# EAGLE library part CONN_SAS_MINI_X_4 (library GPLIB_CONN)
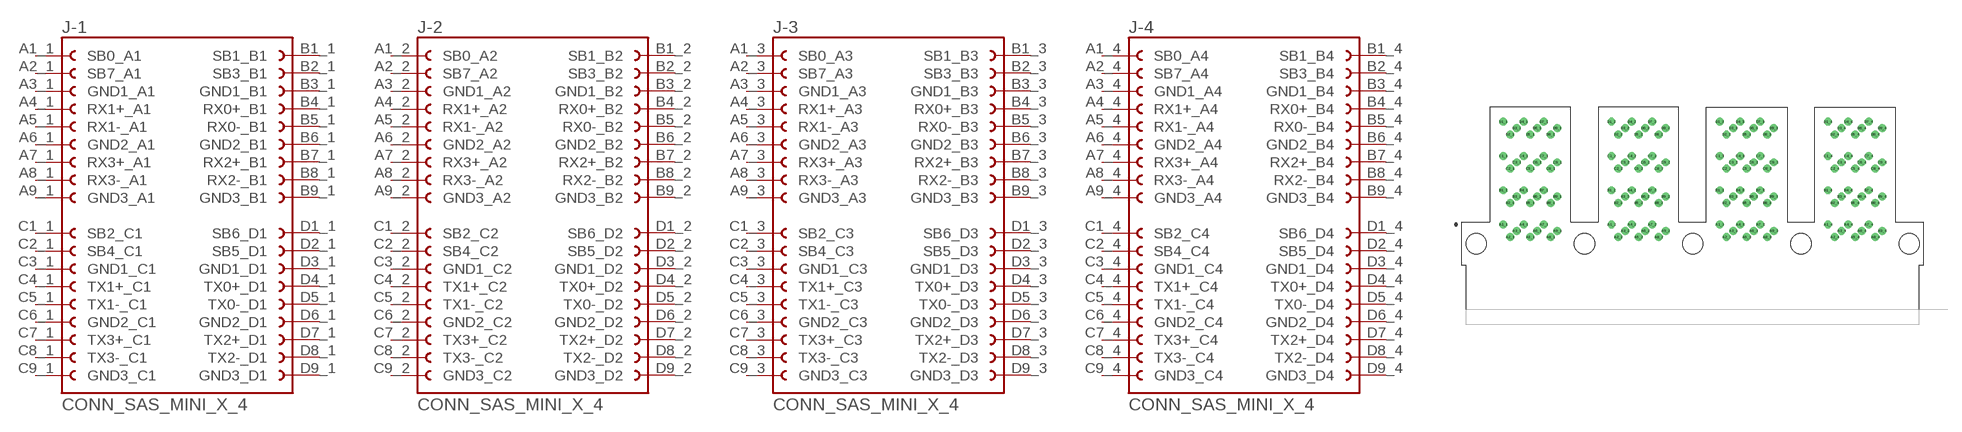
[diagram p59: symbol with the pads of CONN_144P_MINI_SAS_G40H13331HR; footprint CONN_144P_MINI_SAS_G40H13331HR]

Designator prefix J; gates -1=CONN_SAS_MINI_36PX4_144P_1 -2=CONN_SAS_MINI_36PX4_144P_2 -3=CONN_SAS_MINI_36PX4_144P_3 -4=CONN_SAS_MINI_36PX4_144P_4

## CONN_SAS_MINI_X_4_G40H13331HR  [CONN_144P_MINI_SAS_G40H13331HR]
A1_1  -1:SB0_A1  pas
A1_2  -2:SB0_A2  pas
A1_3  -3:SB0_A3  pas
A1_4  -4:SB0_A4  pas
A2_1  -1:SB7_A1  pas
A2_2  -2:SB7_A2  pas
A2_3  -3:SB7_A3  pas
A2_4  -4:SB7_A4  pas
A3_1  -1:GND1_A1  pas
A3_2  -2:GND1_A2  pas
A3_3  -3:GND1_A3  pas
A3_4  -4:GND1_A4  pas
A4_1  -1:RX1+_A1  pas
A4_2  -2:RX1+_A2  pas
A4_3  -3:RX1+_A3  pas
A4_4  -4:RX1+_A4  pas
A5_1  -1:RX1-_A1  pas
A5_2  -2:RX1-_A2  pas
A5_3  -3:RX1-_A3  pas
A5_4  -4:RX1-_A4  pas
A6_1  -1:GND2_A1  pas
A6_2  -2:GND2_A2  pas
A6_3  -3:GND2_A3  pas
A6_4  -4:GND2_A4  pas
A7_1  -1:RX3+_A1  pas
A7_2  -2:RX3+_A2  pas
A7_3  -3:RX3+_A3  pas
A7_4  -4:RX3+_A4  pas
A8_1  -1:RX3-_A1  pas
A8_2  -2:RX3-_A2  pas
A8_3  -3:RX3-_A3  pas
A8_4  -4:RX3-_A4  pas
A9_1  -1:GND3_A1  pas
A9_2  -2:GND3_A2  pas
A9_3  -3:GND3_A3  pas
A9_4  -4:GND3_A4  pas
B1_1  -1:SB1_B1  pas
B1_2  -2:SB1_B2  pas
B1_3  -3:SB1_B3  pas
B1_4  -4:SB1_B4  pas
B2_1  -1:SB3_B1  pas
B2_2  -2:SB3_B2  pas
B2_3  -3:SB3_B3  pas
B2_4  -4:SB3_B4  pas
B3_1  -1:GND1_B1  pas
B3_2  -2:GND1_B2  pas
B3_3  -3:GND1_B3  pas
B3_4  -4:GND1_B4  pas
B4_1  -1:RX0+_B1  pas
B4_2  -2:RX0+_B2  pas
B4_3  -3:RX0+_B3  pas
B4_4  -4:RX0+_B4  pas
B5_1  -1:RX0-_B1  pas
B5_2  -2:RX0-_B2  pas
B5_3  -3:RX0-_B3  pas
B5_4  -4:RX0-_B4  pas
B6_1  -1:GND2_B1  pas
B6_2  -2:GND2_B2  pas
B6_3  -3:GND2_B3  pas
B6_4  -4:GND2_B4  pas
B7_1  -1:RX2+_B1  pas
B7_2  -2:RX2+_B2  pas
B7_3  -3:RX2+_B3  pas
B7_4  -4:RX2+_B4  pas
B8_1  -1:RX2-_B1  pas
B8_2  -2:RX2-_B2  pas
B8_3  -3:RX2-_B3  pas
B8_4  -4:RX2-_B4  pas
B9_1  -1:GND3_B1  pas
B9_2  -2:GND3_B2  pas
B9_3  -3:GND3_B3  pas
B9_4  -4:GND3_B4  pas
C1_1  -1:SB2_C1  pas
C1_2  -2:SB2_C2  pas
C1_3  -3:SB2_C3  pas
C1_4  -4:SB2_C4  pas
C2_1  -1:SB4_C1  pas
C2_2  -2:SB4_C2  pas
C2_3  -3:SB4_C3  pas
C2_4  -4:SB4_C4  pas
C3_1  -1:GND1_C1  pas
C3_2  -2:GND1_C2  pas
C3_3  -3:GND1_C3  pas
C3_4  -4:GND1_C4  pas
C4_1  -1:TX1+_C1  pas
C4_2  -2:TX1+_C2  pas
C4_3  -3:TX1+_C3  pas
C4_4  -4:TX1+_C4  pas
C5_1  -1:TX1-_C1  pas
C5_2  -2:TX1-_C2  pas
C5_3  -3:TX1-_C3  pas
C5_4  -4:TX1-_C4  pas
C6_1  -1:GND2_C1  pas
C6_2  -2:GND2_C2  pas
C6_3  -3:GND2_C3  pas
C6_4  -4:GND2_C4  pas
C7_1  -1:TX3+_C1  pas
C7_2  -2:TX3+_C2  pas
C7_3  -3:TX3+_C3  pas
C7_4  -4:TX3+_C4  pas
C8_1  -1:TX3-_C1  pas
C8_2  -2:TX3-_C2  pas
C8_3  -3:TX3-_C3  pas
C8_4  -4:TX3-_C4  pas
C9_1  -1:GND3_C1  pas
C9_2  -2:GND3_C2  pas
C9_3  -3:GND3_C3  pas
C9_4  -4:GND3_C4  pas
D1_1  -1:SB6_D1  pas
D1_2  -2:SB6_D2  pas
D1_3  -3:SB6_D3  pas
D1_4  -4:SB6_D4  pas
D2_1  -1:SB5_D1  pas
D2_2  -2:SB5_D2  pas
D2_3  -3:SB5_D3  pas
D2_4  -4:SB5_D4  pas
D3_1  -1:GND1_D1  pas
D3_2  -2:GND1_D2  pas
D3_3  -3:GND1_D3  pas
D3_4  -4:GND1_D4  pas
D4_1  -1:TX0+_D1  pas
D4_2  -2:TX0+_D2  pas
D4_3  -3:TX0+_D3  pas
D4_4  -4:TX0+_D4  pas
D5_1  -1:TX0-_D1  pas
D5_2  -2:TX0-_D2  pas
D5_3  -3:TX0-_D3  pas
D5_4  -4:TX0-_D4  pas
D6_1  -1:GND2_D1  pas
D6_2  -2:GND2_D2  pas
D6_3  -3:GND2_D3  pas
D6_4  -4:GND2_D4  pas
D7_1  -1:TX2+_D1  pas
D7_2  -2:TX2+_D2  pas
D7_3  -3:TX2+_D3  pas
D7_4  -4:TX2+_D4  pas
D8_1  -1:TX2-_D1  pas
D8_2  -2:TX2-_D2  pas
D8_3  -3:TX2-_D3  pas
D8_4  -4:TX2-_D4  pas
D9_1  -1:GND3_D1  pas
D9_2  -2:GND3_D2  pas
D9_3  -3:GND3_D3  pas
D9_4  -4:GND3_D4  pas

## Footprint CONN_144P_MINI_SAS_G40H13331HR (pad centres in mm)
drill 0.37 pad 0.73: A1_1 -21,0.7; A1_2 -9,0.7; A1_3 3,0.7; A1_4 15,0.7; A2_1 -20.25,-0.7; A2_2 -8.25,-0.7; A2_3 3.75,-0.7; A2_4 15.75,-0.7; A3_1 -19.5,0; A3_2 -7.5,0; A3_3 4.5,0; A3_4 16.5,0; A4_1 -18.75,0.7; A4_2 -6.75,0.7; A4_3 5.25,0.7; A4_4 17.25,0.7; A5_1 -18,-0.7; A5_2 -6,-0.7; A5_3 6,-0.7; A5_4 18,-0.7; A6_1 -17.25,0; A6_2 -5.25,0; A6_3 6.75,0; A6_4 18.75,0; A7_1 -16.5,0.7; A7_2 -4.5,0.7; A7_3 7.5,0.7; A7_4 19.5,0.7; A8_1 -15.75,-0.7; A8_2 -3.75,-0.7; A8_3 8.25,-0.7; A8_4 20.25,-0.7; A9_1 -15,0; A9_2 -3,0; A9_3 9,0; A9_4 21,0; B1_1 -21,4.5; B1_2 -9,4.5; B1_3 3,4.5; B1_4 15,4.5; B2_1 -20.25,3.1; B2_2 -8.25,3.1; B2_3 3.75,3.1; B2_4 15.75,3.1; B3_1 -19.5,3.8; B3_2 -7.5,3.8; B3_3 4.5,3.8; B3_4 16.5,3.8; B4_1 -18.75,4.5; B4_2 -6.75,4.5; B4_3 5.25,4.5; B4_4 17.25,4.5; B5_1 -18,3.1; B5_2 -6,3.1; B5_3 6,3.1; B5_4 18,3.1; B6_1 -17.25,3.8; B6_2 -5.25,3.8; B6_3 6.75,3.8; B6_4 18.75,3.8; B7_1 -16.5,4.5; B7_2 -4.5,4.5; B7_3 7.5,4.5; B7_4 19.5,4.5; B8_1 -15.75,3.1; B8_2 -3.75,3.1; B8_3 8.25,3.1; B8_4 20.25,3.1; B9_1 -15,3.8; B9_2 -3,3.8; B9_3 9,3.8; B9_4 21,3.8; C1_1 -21,8.3; C1_2 -9,8.3; C1_3 3,8.3; C1_4 15,8.3; C2_1 -20.25,6.9; C2_2 -8.25,6.9; C2_3 3.75,6.9; C2_4 15.75,6.9; C3_1 -19.5,7.6; C3_2 -7.5,7.6; C3_3 4.5,7.6; C3_4 16.5,7.6; C4_1 -18.75,8.3; C4_2 -6.75,8.3; C4_3 5.25,8.3; C4_4 17.25,8.3; C5_1 -18,6.9; C5_2 -6,6.9; C5_3 6,6.9; C5_4 18,6.9; C6_1 -17.25,7.6; C6_2 -5.25,7.6; C6_3 6.75,7.6; C6_4 18.75,7.6; C7_1 -16.5,8.3; C7_2 -4.5,8.3; C7_3 7.5,8.3; C7_4 19.5,8.3; C8_1 -15.75,6.9; C8_2 -3.75,6.9; C8_3 8.25,6.9; C8_4 20.25,6.9; C9_1 -15,7.6; C9_2 -3,7.6; C9_3 9,7.6; C9_4 21,7.6; D1_1 -21,12.1; D1_2 -9,12.1; D1_3 3,12.1; D1_4 15,12.1; D2_1 -20.25,10.7; D2_2 -8.25,10.7; D2_3 3.75,10.7; D2_4 15.75,10.7; D3_1 -19.5,11.4; D3_2 -7.5,11.4; D3_3 4.5,11.4; D3_4 16.5,11.4; D4_1 -18.75,12.1; D4_2 -6.75,12.1; D4_3 5.25,12.1; D4_4 17.25,12.1; D5_1 -18,10.7; D5_2 -6,10.7; D5_3 6,10.7; D5_4 18,10.7; D6_1 -17.25,11.4; D6_2 -5.25,11.4; D6_3 6.75,11.4; D6_4 18.75,11.4; D7_1 -16.5,12.1; D7_2 -4.5,12.1; D7_3 7.5,12.1; D7_4 19.5,12.1; D8_1 -15.75,10.7; D8_2 -3.75,10.7; D8_3 8.25,10.7; D8_4 20.25,10.7; D9_1 -15,11.4; D9_2 -3,11.4; D9_3 9,11.4; D9_4 21,11.4
hole 2.25 at -24,-1.45
hole 2.25 at 24,-1.45
hole 2.25 at 12,-1.45
hole 2.25 at 0,-1.45
hole 2.25 at -12,-1.45